# Altium footprint library ESD_Suppressors.PcbLib: 17 footprints (part 2 of 2)
Each footprint in its own frame and in the unit in brackets; x right, y up, seen from the top. Pads: shape width x height; smd on the part's side, far side on the other; paste and mask are expansions set on the pad; w line width, h text height; cw(c..) or ccw(c..) is an arc to the next point about the centre after c.
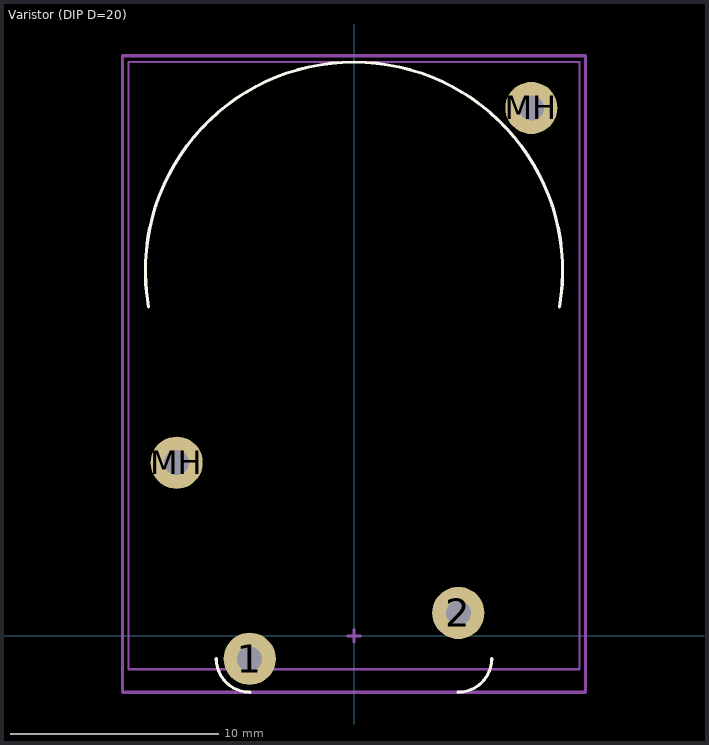
[diagram p1: the footprint, top view; thin cyan lines are the x and y axes]

## Varistor (DIP D=20) [mm]
pads (4):
  round 2.5 hole 1.2: 1(-5,-1.1) 2(5,1.1) MH(-8.5,8.3) MH(8.5,25.3)
Top Overlay:
  lines w0.153: -9.848,15.764 cw(c0,17.5) 9.848,15.764 ; -6.6,-1.1 ccw(c-5,-1.1) -5,-2.7 ; 5,-2.7 ccw(c5,-1.1) 6.6,-1.1
Top Assembly:
  lines w0.1: -10.8,-1.6 -10.8,27.5 10.8,27.5 10.8,-1.6 -10.8,-1.6
  text "'.Designator'" at -4.532,-0.333 h0.8
Top Courtyard:
  lines w0.153: -0.3,0 0.3,0 ; 0,-0.3 0,0.3 ; -11.1,-2.7 11.1,-2.7 11.1,27.8 -11.1,27.8 -11.1,-2.7
3D body "User Library-Varistor_20mm.STEP": height 7.3, standoff -2.5, extent -10.743,-1.6 10.755,27.51